# EAGLE library part LCD-GLCD-400X240 (library mylib)
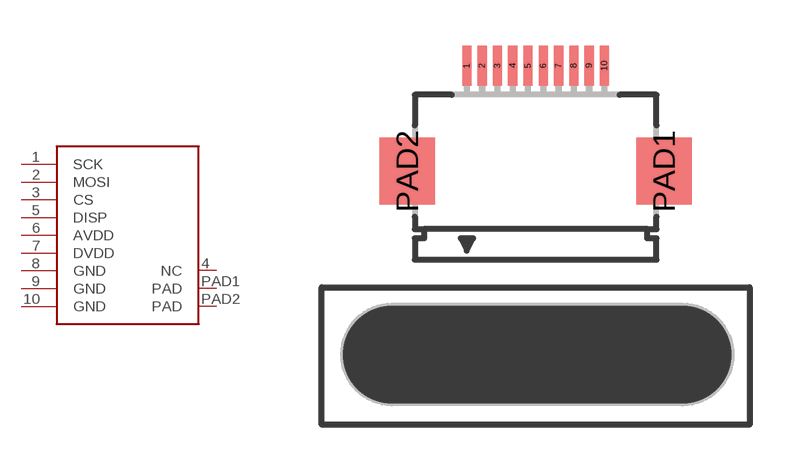
[diagram p97: symbol with the pads of LCD-GLCD-400X240; footprint LCD-GLCD-400X240]

Designator prefix LCD

## LCD-GLCD-400X240 (DIGIKEY: HFJ110CT-ND; MOUSER: 798-FH12-10S-0.5SH55)  [LCD-GLCD-400X240]
1  SCK
2  MOSI
3  CS
4  NC
5  DISP
6  AVDD
7  DVDD
8  GND
9  GND
10  GND
PAD1  PAD
PAD2  PAD

## Footprint LCD-GLCD-400X240 (pad centres in mm)
smd 0.3 x 1.3: 1 -2.25,3.45; 2 -1.75,3.45; 3 -1.25,3.45; 4 -0.75,3.45; 5 -0.25,3.45; 6 0.25,3.45; 7 0.75,3.45; 8 1.25,3.45; 9 1.75,3.45; 10 2.25,3.45
smd 1.8 x 2.2: PAD1 4.2,0; PAD2 -4.2,0